# EAGLE library part IRF7303 (library Circuitos-Creativos-Transistores)
MOSFET dual canal-N, 30V-2.5A, 2W-25ºC
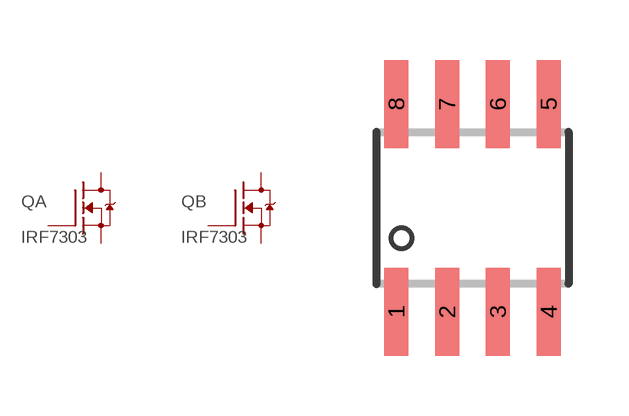
[diagram p0: symbol with the pads of SO-08; footprint SO-08]

Designator prefix Q; gates A=MOSFET-N B=MOSFET-N

## IRF7303  [SO-08]
1  A:S  pas
2  A:G  pas
3  B:S  pas
4  B:G  pas
5  B:D  pas
6  B:D  pas
7  A:D  pas
8  A:D  pas

## Footprint SO-08 (pad centres in mm)
smd 0.6 x 2.2: 1 -1.905,-2.6; 2 -0.635,-2.6; 3 0.635,-2.6; 4 1.905,-2.6; 5 1.905,2.6; 6 0.635,2.6; 7 -0.635,2.6; 8 -1.905,2.6